# EAGLE library part AND_GATE_4CH (library AmandaEagleLibrary)
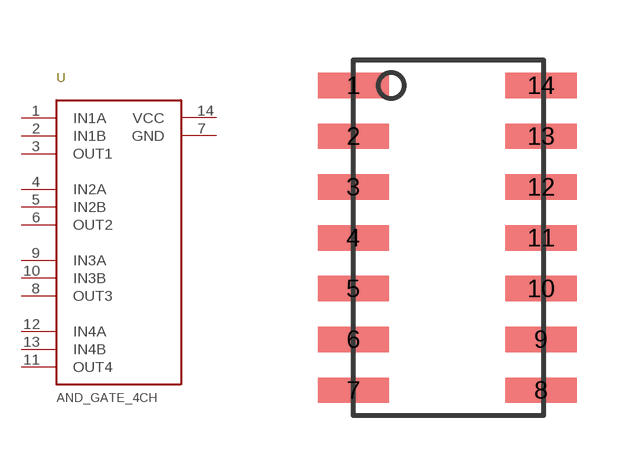
[diagram p7: symbol with the pads of 14-SOIC; footprint 14-SOIC]

Designator prefix -

## AND_GATE_4CH  [14-SOIC]
1  IN1A
2  IN1B
3  OUT1
4  IN2A
5  IN2B
6  OUT2
7  GND
8  OUT3
9  IN3A
10  IN3B
11  OUT4
12  IN4A
13  IN4B
14  VCC

## Footprint 14-SOIC (pad centres in mm)
smd 1.778 x 0.635: 1 -2.223,3.81; 2 -2.223,2.54; 3 -2.223,1.27; 4 -2.223,0; 5 -2.223,-1.27; 6 -2.223,-2.54; 7 -2.223,-3.81; 8 2.477,-3.81; 9 2.477,-2.54; 10 2.477,-1.27; 11 2.477,0; 12 2.477,1.27; 13 2.477,2.54; 14 2.477,3.81